# EAGLE library part AD7927 (library paparazzi)
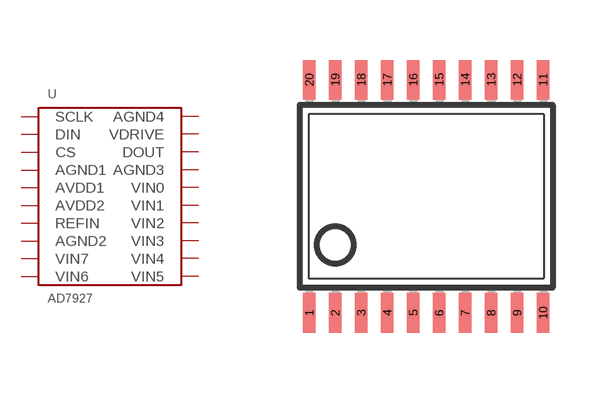
[diagram p5: symbol with the pads of TSSOP20; footprint TSSOP20]

Designator prefix -

## AD7927  [TSSOP20]
1  SCLK
2  DIN
3  CS
4  AGND1
5  AVDD1
6  AVDD2
7  REFIN
8  AGND2
9  VIN7
10  VIN6
11  VIN5
12  VIN4
13  VIN3
14  VIN2
15  VIN1
16  VIN0
17  AGND3
18  DOUT
19  VDRIVE
20  AGND4

## Footprint TSSOP20 (pad centres in mm)
Thin Shrink Small Outline Plastic 20 MAX3223-MAX3243.pdf
smd 0.305 x 0.991: 1 -2.925,-2.918; 2 -2.275,-2.918; 3 -1.625,-2.918; 4 -0.975,-2.918; 5 -0.325,-2.918; 6 0.325,-2.918; 7 0.975,-2.918; 8 1.625,-2.918; 9 2.275,-2.918; 10 2.925,-2.918; 11 2.925,2.918; 12 2.275,2.918; 13 1.625,2.918; 14 0.975,2.918; 15 0.325,2.918; 16 -0.325,2.918; 17 -0.975,2.918; 18 -1.625,2.918; 19 -2.275,2.918; 20 -2.925,2.918